# EAGLE library part SHERLOCK-6P (library RS-molex-sherlock)
6-pin Molex SherlockTM connector system Verticle 35362-06** Right Angle 35363-066** Mates with: 35507-0600 header 50212-8100 pins Use 63819-0500 crimper, and 57105-6000 pin extraction tool.
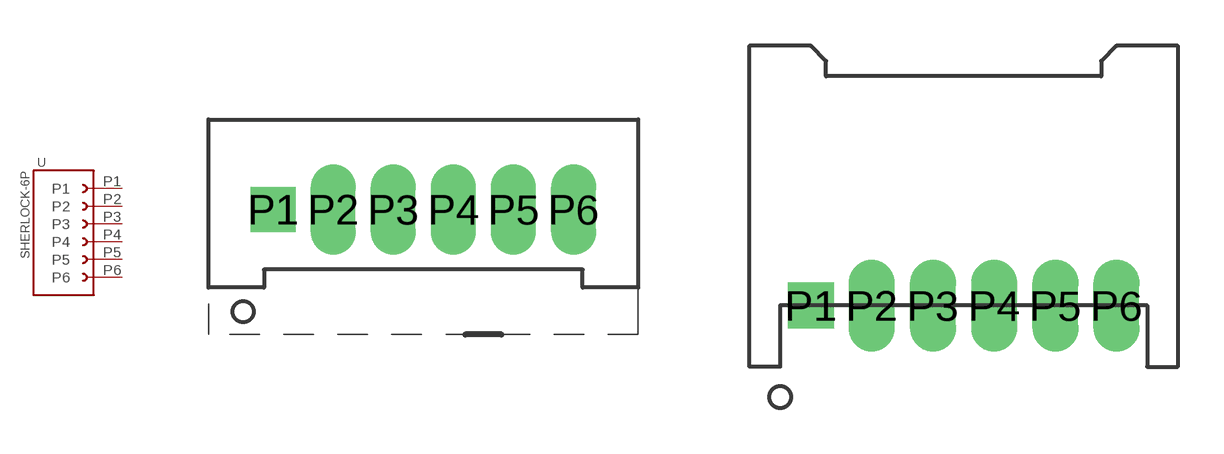
[diagram p0: symbol with the pads of 35362-06**; footprints 35362-06**, 35363-066*]

Designator prefix -

## SHERLOCK-6PVERTICAL  [35362-06**]
P1  P1
P2  P2
P3  P3
P4  P4
P5  P5
P6  P6

## SHERLOCK-6PRIGHT-ANGLE  [35363-066*]
Pads as for 35362-06**

## Footprint 35362-06** (pad centres in mm)
drill 0.8 pad 1.5 square: P1 -5,0
drill 0.8 pad 1.5 long: P2 -3,0; P3 -1,0; P4 1,0; P5 3,0; P6 5,0

## Footprint 35363-066* (pad centres in mm)
drill 0.8 pad 1.5 square: P1 -5,0
drill 0.8 pad 1.5 long: P2 -3,0; P3 -1,0; P4 1,0; P5 3,0; P6 5,0